# Altium footprint library IC_REG_LINEAR_3V3_1V8_SMD.PcbLib: 1 footprints
Each footprint in its own frame and in the unit in brackets; x right, y up, seen from the top. Pads: shape width x height; smd on the part's side, far side on the other; paste and mask are expansions set on the pad; w line width, h text height; cw(c..) or ccw(c..) is an arc to the next point about the centre after c.
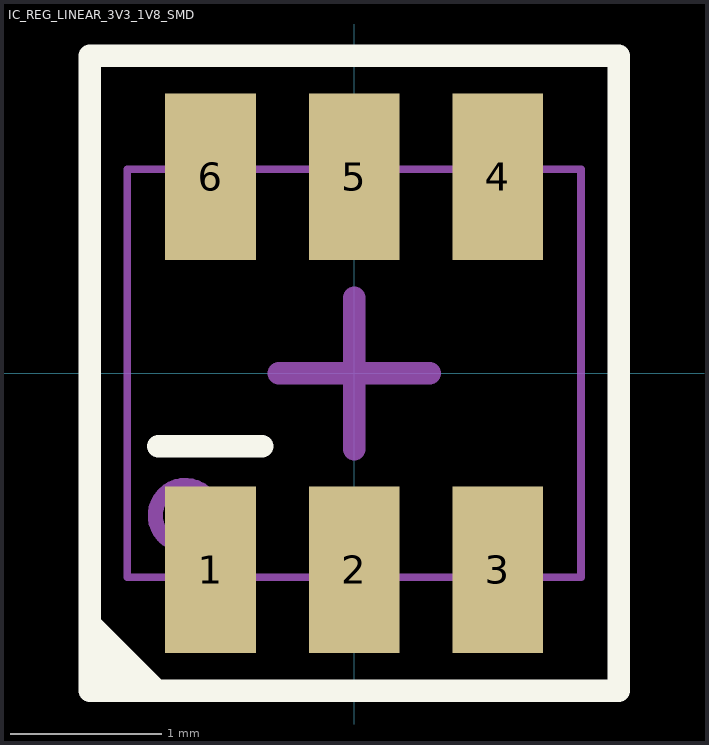
[diagram p0: the footprint, top view; thin cyan lines are the x and y axes]

## IC_REG_LINEAR_3V3_1V8_SMD [mm] "IC REG LINEAR 1.8V/3.3V SOT26"
height 1.45
pads (6):
  rect 0.6x1.1 smd: 1(-0.95,-1.3) 2(0,-1.3) 3(0.95,-1.3) 4(0.95,1.3) 5(0,1.3) 6(-0.95,1.3)
Top Overlay:
  region: -1.75,-2.1 -1.753,-2.097 -1.753,-1.549 -1.193,-2.109
  lines w0.15: -1.295,-0.483 -0.61,-0.483 ; -1.75,-2.1 1.75,-2.1 1.75,2.1 -1.75,2.1 -1.75,-2.1
Top Assembly:
  circle w0.1: c-1.118,-0.94 r0.198
  lines w0.05: -1.5,-1.35 1.5,-1.35 1.5,1.35 -1.5,1.35 -1.5,-1.35
  text ".designator" at -1.597,-0.254 h0.64
Top Courtyard:
  lines w0.05: -1.75,-2.1 1.75,-2.1 1.75,2.1 -1.75,2.1 -1.75,-2.1
  lines w0.15: -0.5,0 0.5,0 ; 0,-0.5 0,0.5
3D body "IC_REG_LINEAR_3V3_1V8_SMD.STEP": height 1.11, standoff 0.01, extent -1.447,-1.204 1.453,1.196